# Altium integrated library lib-IC_Other.IntLib: 6 symbols
Pins are listed as number, name and electrical type; pins without a type are passive.

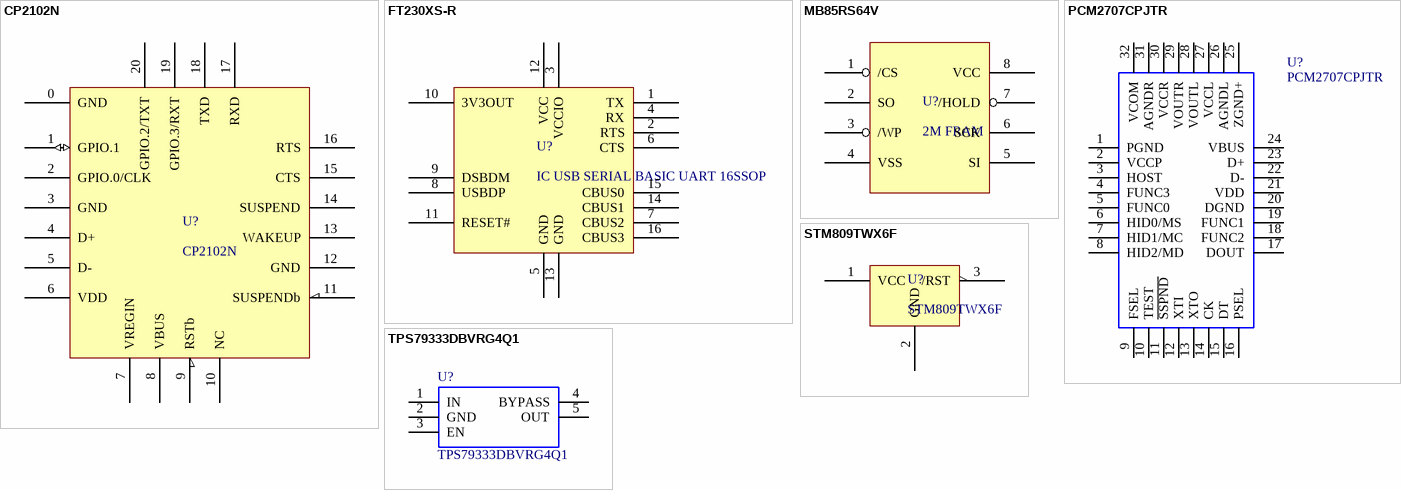
[diagram p0: symbols CP2102N to TPS79333DBVRG4Q1]

## CP2102N
designator U?
USB Bridge, USB to UART USB 2.0 UART Interface 20-QFN (3x3); Manufacturer PN: CP2102N-A01-GQFN20R; Manfacturer: Silicon Labs; Digikey PN: 336-4826-1-ND
footprint QFN20 (SILICON LABS)
pins: 0 GND, 1 GPIO.1 (io), 2 GPIO.0/CLK, 3 GND, 4 D+, 5 D-, 6 VDD (power), 7 VREGIN (power), 8 VBUS (power), 9 RSTb, 10 NC, 11 SUSPENDb, 12 GND, 13 WAKEUP, 14 SUSPEND, 15 CTS, 16 RTS, 17 RXD, 18 TXD, 19 GPIO.3/RXT, 20 GPIO.2/TXT

## FT230XS-R
designator U?, comment IC USB SERIAL BASIC UART 16SSOP
USB Bridge, USB to UART USB 2.0 UART Interface 16-SSOP
footprint FT230XS-R (FTDI FT230XS-R)
pins: 1 TX, 2 RTS, 3 VCCIO, 4 RX, 5 GND, 6 CTS, 7 CBUS2, 8 USBDP, 9 DSBDM, 10 3V3OUT, 11 RESET#, 12 VCC, 13 GND, 14 CBUS1, 15 CBUS0, 16 CBUS3

## MB85RS64V
designator U?, comment 2M FRAM
Fujitsu MB85RS64V 64K FRAM; Vendor: Digikey; Manufacturer Part Number 1: MB85RS64V; Manufacturer 1: Fujitsu; Price @ 100: *; ComponentLink1URL: *; ComponentLink1Description: Datasheet
footprint FTP-8P-M02 (Fujitsu SOP-8)
pins: 1 /CS, 2 SO, 3 /WP, 4 VSS, 5 SI, 6 SCK, 7 /HOLD, 8 VCC

## PCM2707CPJTR
designator U?
Stereo Audio DAC with Full Speed USB Interface, Single-Ended Headphone Output, and S/PDIF; Manufacturer_Name: Texas Instruments; Geometry.Height: 1.2mm; Manufacturer_Part_Number: PCM2707CPJTR; Mouser Part Number: 595-PCM2707CPJTR; Mouser Price/Stock: https://www.mouser.com/Search/Refine.aspx?Keyword=595-PCM2707CPJTR; RS Part Number: 595-PCM2707CPJTR; RS Price/Stock: https://www.mouser.com/Search/Refine.aspx?Keyword=595-PCM2707CPJTR; Datasheet Link: http://www.ti.com/lit/gpn/pcm2707c
footprint QFP80P900X900X120-32N
pins: 1 PGND, 2 VCCP, 3 HOST, 4 FUNC3, 5 FUNC0, 6 HID0/MS, 7 HID1/MC, 8 HID2/MD, 9 FSEL, 10 TEST, 11 ~{SSPND}, 12 XTI, 13 XTO, 14 CK, 15 DT, 16 PSEL, 17 DOUT, 18 FUNC2, 19 FUNC1, 20 DGND, 21 VDD, 22 D-, 23 D+, 24 VBUS, 25 ZGND+, 26 AGNDL, 27 VCCL, 28 VOUTL, 29 VOUTR, 30 VCCR, 31 AGNDR, 32 VCOM

## STM809TWX6F
designator U?
IC MPU RESET CIRC 3.08V SOT23; Manufacturer 1: STMicroelectronics; Manufacturer Part Number 1: STM809TWX6F; Supplier 1: Digi-Key; Supplier Part Number 1: 497-3339-1-ND; ComponentLink1Description: Datasheet; ComponentLink1URL: https://www.st.com/content/ccc/resource/technical/document/datasheet/cd/e2/ab/27/7d/5d/44/41/CD00003591.pdf/files/CD00003591.pdf/jcr:content/translations/en.CD00003591.pdf
footprint SOT103P237X112-3N
pins: 1 VCC, 2 GND, 3 /RST

## TPS79333DBVRG4Q1
designator U?
Ultralow Noise High PSRR Fast RF 200-mA Low-Dropout Linear Regulators for Automotive; Manufacturer 1: Texas Instruments; Geometry.Height: 1.45mm; Manufacturer Part Number 1: TPS79333DBVRG4Q1; Mouser Part Number: 595-TPS79333DBVRG4Q1; Mouser Price/Stock: https://www.mouser.com/Search/Refine.aspx?Keyword=595-TPS79333DBVRG4Q1; RS Part Number: 7320705P; RS Price/Stock: http://uk.rs-online.com/web/p/products/7320705P; Datasheet Link: http://www.ti.com/lit/ds/symlink/tps79333-q1.pdf
footprint SOT95P280X145-5N
pins: 1 IN, 2 GND, 3 EN, 4 BYPASS, 5 OUT